# EAGLE library part SO16GT-DC (library STEMTera)
AMKOR SO16GT-DC 3.8mm Body
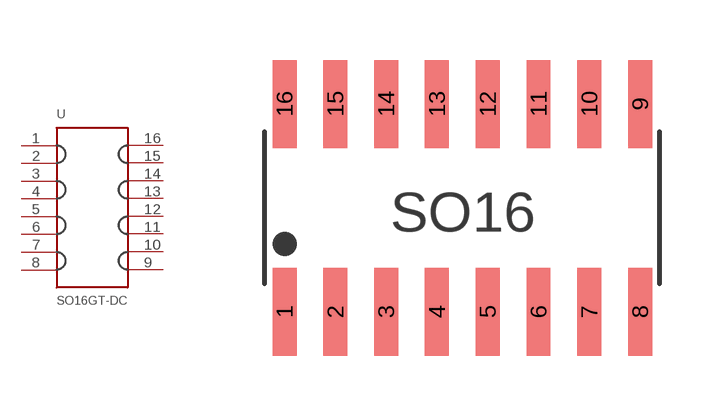
[diagram p9: symbol with the pads of SOIC16_3.8MM; footprint SOIC16_3.8MM]

Designator prefix -

## SO16GT-DC  [SOIC16_3.8MM]
1  1
2  2
3  3
4  4
5  5
6  6
7  7
8  8
9  9
10  10
11  11
12  12
13  13
14  14
15  15
16  16

## Footprint SOIC16_3.8MM (pad centres in mm)
SOIC16 3.8mm Body
smd 0.6 x 2.2: 1 0,0; 2 1.27,0; 3 2.54,0; 4 3.81,0; 5 5.08,0; 6 6.35,0; 7 7.62,0; 8 8.89,0; 9 8.89,5.2; 10 7.62,5.2; 11 6.35,5.2; 12 5.08,5.2; 13 3.81,5.2; 14 2.54,5.2; 15 1.27,5.2; 16 0,5.2